# EAGLE library part SN65HVD232D (library ti)
3v3 powered CAN Transeiver by TI
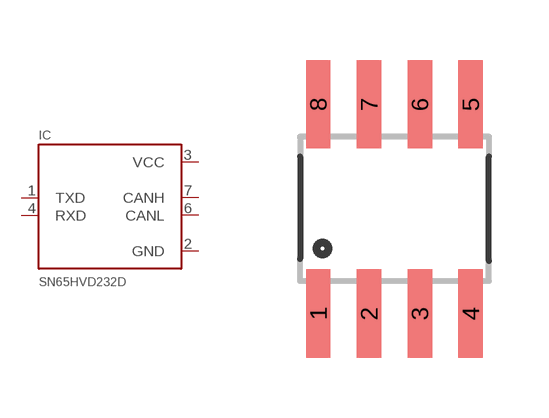
[diagram p1: symbol with the pads of SO08; footprint SO08]

Designator prefix IC

## SN65HVD232D  [SO08]
1  TXD  in
2  GND  pwr
3  VCC  pwr
4  RXD  out
6  CANL
7  CANH

## Footprint SO08 (pad centres in mm)
Small Outline Package Fits JEDEC packages (narrow SOIC-8)
smd 0.61 x 2.21: 1 -1.905,-2.616; 2 -0.635,-2.616; 3 0.635,-2.616; 4 1.905,-2.616; 5 1.905,2.616; 6 0.635,2.616; 7 -0.635,2.616; 8 -1.905,2.616